# EAGLE library part L298P (library L298P)
L298P, Full Bridge Motor Driver, 3A Dual Full Bridge Motor Driver,, 25W 4.8 46 V, 20-Pin Power SO Source: Datasheet <http://docs-europe.electrocomponents.com/webdocs/135f/0900766b8135fb62.pdf>
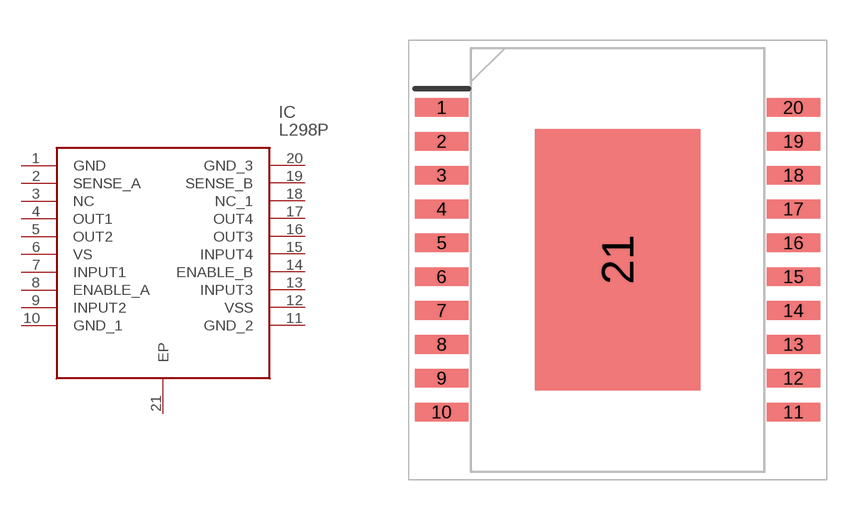
[diagram p0: symbol with the pads of SOIC127P1420X360-21N; footprint SOIC127P1420X360-21N]

Designator prefix IC

## L298P (Allied_Number: 70013871; Allied_Price/Stock: http://www.alliedelec.com/stmicroelectronics-l298p/70013871/; Description: L298P, Full Bridge Motor Driver, 3A Dual Full Bridge Motor Driver,, 25W 4.8 46 V, 20-Pin Power SO; Height: 3.6mm; Manufacturer_Name: STMicroelectronics; Manufacturer_Part_Number: L298P; RS_Part_Number: 7147715P; RS_Price/Stock: http://uk.rs-online.com/web/p/products/7147715P)  [SOIC127P1420X360-21N]
1  GND  in
2  SENSE_A  in
3  NC  in
4  OUT1  in
5  OUT2  in
6  VS  in
7  INPUT1  in
8  ENABLE_A  in
9  INPUT2  in
10  GND_1  in
11  GND_2  in
12  VSS  in
13  INPUT3  in
14  ENABLE_B  in
15  INPUT4  in
16  OUT3  in
17  OUT4  in
18  NC_1  in
19  SENSE_B  in
20  GND_3  in
21  EP  in

## Footprint SOIC127P1420X360-21N (pad centres in mm)
PowerSO20
smd 2 x 0.7: 1 -6.6,5.715; 2 -6.6,4.445; 3 -6.6,3.175; 4 -6.6,1.905; 5 -6.6,0.635; 6 -6.6,-0.635; 7 -6.6,-1.905; 8 -6.6,-3.175; 9 -6.6,-4.445; 10 -6.6,-5.715; 11 6.6,-5.715; 12 6.6,-4.445; 13 6.6,-3.175; 14 6.6,-1.905; 15 6.6,-0.635; 16 6.6,0.635; 17 6.6,1.905; 18 6.6,3.175; 19 6.6,4.445; 20 6.6,5.715
smd 6.2 x 9.8: 21 0,0